# EAGLE library part MCP4725 (library G1Tech-Integrated-Circuits)
http://ww1.microchip.com/downloads/en/DeviceDoc/22039d.pdf
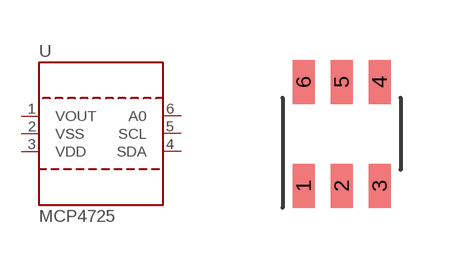
[diagram p2: symbol with the pads of SOT23-6; footprint SOT23-6]

Designator prefix U

## MCP4725  [SOT23-6]
1  VOUT  pwr
2  VSS  pwr
3  VDD  pwr
4  SDA
5  SCL
6  A0

## Footprint SOT23-6 (pad centres in mm)
smd 0.55 x 1.1: 1 -0.95,-1.3; 2 0,-1.3; 3 0.95,-1.3; 4 0.95,1.3; 5 0,1.3; 6 -0.95,1.3